# EAGLE library part NTTFS5C673NLTAG (library NTTFS5C673NLTAG)
Low RDS(on); Low Input Capacitance; Small Footprint (3.3x3.3 mm); RoHS Compliant Source: Datasheet <https://www.onsemi.com/pub/Collateral/NTTFS5C673NL-D.PDF>
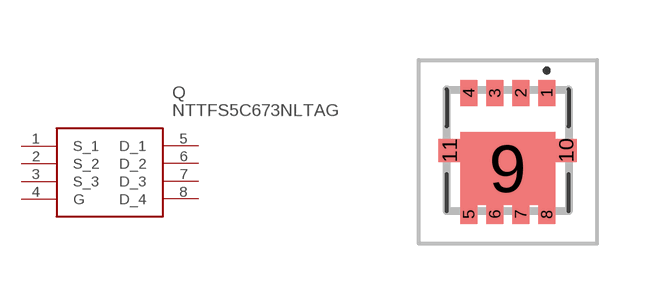
[diagram p0: symbol with the pads of NVTFS6H854NTAG; footprint NVTFS6H854NTAG]

Designator prefix Q

## NTTFS5C673NLTAG (Description: Low RDS(on); Low Input Capacitance; Small Footprint (3.3x3.3 mm); RoHS Compliant; Height: mm; Manufacturer_Name: onsemi; Manufacturer_Part_Number: NTTFS5C673NLTAG; Mouser_Part_Number: 863-NTTFS5C673NLTAG; Mouser_Price-Stock: https://www.mouser.co.uk/ProductDetail/onsemi/NTTFS5C673NLTAG?qs=slMPpRTKD5r23pDctKfw6A%3D%3D)  [NVTFS6H854NTAG]
1  S_1
2  S_2
3  S_3
4  G
5  D_1
6  D_2
7  D_3
8  D_4

## Footprint NVTFS6H854NTAG (pad centres in mm)
WDFN8 3.3x3.3, 0.65P CASE 511AB ISSUE D_2
smd 0.42 x 0.66: 1 0.975,1.435; 2 0.325,1.435; 3 -0.325,1.435; 4 -0.975,1.435
smd 0.42 x 0.47: 5 -0.975,-1.6; 6 -0.325,-1.6; 7 0.325,-1.6; 8 0.975,-1.6
smd 2.37 x 1.83: 9 0,-0.45
smd 0.545 x 0.57: 10 1.458,0; 11 -1.458,0